# EAGLE library part DAC5672 (library TI)
Dual 14 Bit 275 MSPS Digital to Analog Converter
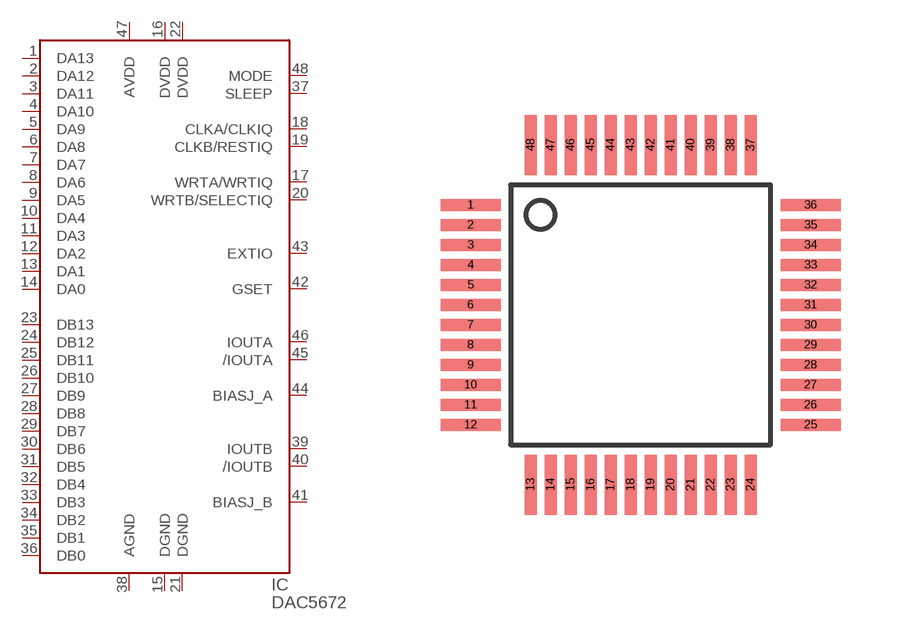
[diagram p24: symbol with the pads of TQFP48; footprint TQFP48]

Designator prefix IC

## DAC5672PFB  [TQFP48]
1  DA13
2  DA12
3  DA11
4  DA10
5  DA9
6  DA8
7  DA7
8  DA6
9  DA5
10  DA4
11  DA3
12  DA2
13  DA1
14  DA0
15  DGND  pwr
16  DVDD  pwr
17  WRTA/WRTIQ
18  CLKA/CLKIQ
19  CLKB/RESTIQ
20  WRTB/SELECTIQ
21  DGND  pwr
22  DVDD  pwr
23  DB13
24  DB12
25  DB11
26  DB10
27  DB9
28  DB8
29  DB7
30  DB6
31  DB5
32  DB4
33  DB3
34  DB2
35  DB1
36  DB0
37  SLEEP
38  AGND  pwr
39  IOUTB
40  /IOUTB
41  BIASJ_B
42  GSET
43  EXTIO
44  BIASJ_A
45  /IOUTA
46  IOUTA
47  AVDD  pwr
48  MODE

## Footprint TQFP48 (pad centres in mm)
48 pin Plastic Quad Flat Pack, 0.5mm pitch
smd 1.5 x 0.3: 1 -4.25,2.75; 2 -4.25,2.25; 3 -4.25,1.75; 4 -4.25,1.25; 5 -4.25,0.75; 6 -4.25,0.25; 7 -4.25,-0.25; 8 -4.25,-0.75; 9 -4.25,-1.25; 10 -4.25,-1.75; 11 -4.25,-2.25; 12 -4.25,-2.75; 25 4.25,-2.75; 26 4.25,-2.25; 27 4.25,-1.75; 28 4.25,-1.25; 29 4.25,-0.75; 30 4.25,-0.25; 31 4.25,0.25; 32 4.25,0.75; 33 4.25,1.25; 34 4.25,1.75; 35 4.25,2.25; 36 4.25,2.75
smd 0.3 x 1.5: 13 -2.75,-4.25; 14 -2.25,-4.25; 15 -1.75,-4.25; 16 -1.25,-4.25; 17 -0.75,-4.25; 18 -0.25,-4.25; 19 0.25,-4.25; 20 0.75,-4.25; 21 1.25,-4.25; 22 1.75,-4.25; 23 2.25,-4.25; 24 2.75,-4.25; 37 2.75,4.25; 38 2.25,4.25; 39 1.75,4.25; 40 1.25,4.25; 41 0.75,4.25; 42 0.25,4.25; 43 -0.25,4.25; 44 -0.75,4.25; 45 -1.25,4.25; 46 -1.75,4.25; 47 -2.25,4.25; 48 -2.75,4.25